# Altium schematic symbol library 2019-03-18_22-33-59.SchLib: 2 symbols
Pins are listed as number, name and electrical type; pins without a type are passive.

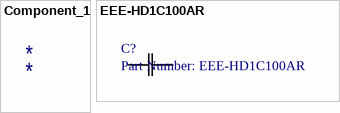
[diagram p0: symbols Component_1 to EEE-HD1C100AR]

## Component_1
designator *

## EEE-HD1C100AR
designator C?, comment Part Number: EEE-HD1C100AR
No Description Available; Vendor: Panasonic; Built_By: EMA_UL_Team; Type: DEV; Manufacturer_Part_Number: EEE-HD1C100AR; Copyright: Copyright (C) 2018 Accelerated Designs. All rights reserved; RefDes: RefDes; Value: Value
footprint CAP_EEEHC_B
pins: 1, 2